# Altium footprint library CONN HEADER 2.50MM PITCH.PcbLib: 52 footprints (part 2 of 4)
Each footprint in its own frame and in the unit in brackets; x right, y up, seen from the top. Pads: shape width x height; smd on the part's side, far side on the other; paste and mask are expansions set on the pad; w line width, h text height; cw(c..) or ccw(c..) is an arc to the next point about the centre after c.
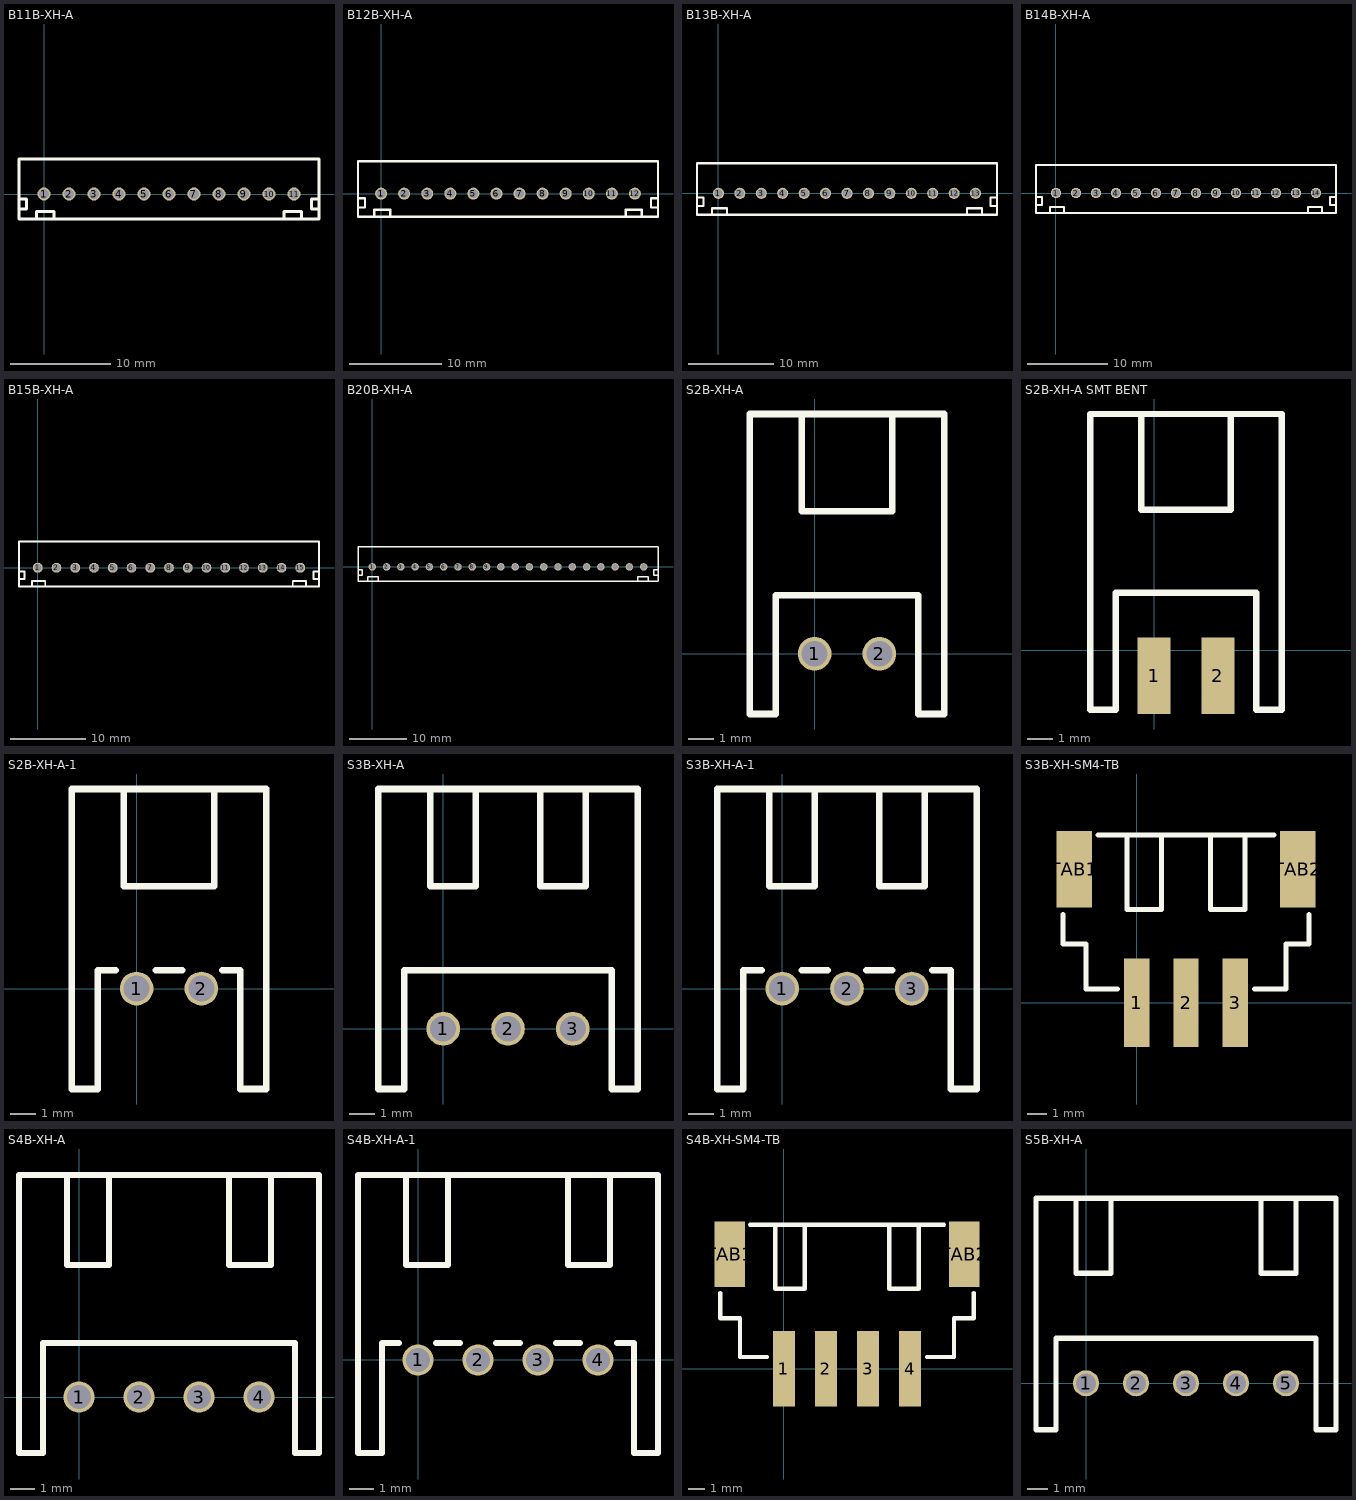
[diagram p1: the footprints below, top view; thin cyan lines are the x and y axes]

## B11B-XH-A [mm] "B11B-XH-A"
height 7
pads (11):
  round 1.3 hole 1: 1(0,0) 2(2.5,0) 3(5,0) 4(7.5,0) 5(10,0) 6(12.5,0) 7(15,0) 8(17.5,0) 9(20,0) 10(22.5,0) 11(25,0)
Top Overlay:
  lines w0.254: -2.5,-1.5 -1.75,-1.5 -1.75,-0.5 -2.5,-0.5 ; -0.75,-2.5 -0.75,-1.75 1,-1.75 1,-2.5 ; 24,-2.5 24,-1.75 25.75,-1.75 25.75,-2.5 ; 27.5,-1.5 26.75,-1.5 26.75,-0.5 27.5,-0.5 ; -2.5,-2.5 27.5,-2.5 27.5,3.5 -2.5,3.5 -2.5,-2.5
3D body "B11B-XH-A.STEP": height 7, standoff -3.4, extent -2.45,-2.375 27.45,3.375

## B12B-XH-A [mm] "B12B-XH-A"
pads (12):
  round 1.3 hole 1: 1(0,0) 2(2.5,0) 3(5,0) 4(7.5,0) 5(10,0) 6(12.5,0) 7(15,0) 8(17.5,0) 9(20,0) 10(22.5,0) 11(25,0) 12(27.5,0)
Top Overlay:
  lines w0.254: -2.5,-1.5 -1.75,-1.5 -1.75,-0.5 -2.5,-0.5 ; -0.75,-2.5 -0.75,-1.75 1,-1.75 1,-2.5 ; 26.5,-2.5 26.5,-1.75 28.25,-1.75 28.25,-2.5 ; 30,-1.5 29.25,-1.5 29.25,-0.5 30,-0.5 ; -2.5,-2.5 30,-2.5 30,3.5 -2.5,3.5 -2.5,-2.5
3D body "B12B-XH-A.STEP": height 7, standoff -3.4, extent -2.45,-2.375 29.95,3.375

## B13B-XH-A [mm] "B13B-XH-A"
height 7
pads (13):
  round 1.3 hole 1: 1(0,0) 2(2.5,0) 3(5,0) 4(7.5,0) 5(10,0) 6(12.5,0) 7(15,0) 8(17.5,0) 9(20,0) 10(22.5,0) 11(25,0) 12(27.5,0) 13(30,0)
Top Overlay:
  lines w0.254: -2.5,-1.5 -1.75,-1.5 -1.75,-0.5 -2.5,-0.5 ; -0.75,-2.5 -0.75,-1.75 1,-1.75 1,-2.5 ; 29,-2.5 29,-1.75 30.75,-1.75 30.75,-2.5 ; 32.5,-1.5 31.75,-1.5 31.75,-0.5 32.5,-0.5 ; -2.5,-2.5 32.5,-2.5 32.5,3.5 -2.5,3.5 -2.5,-2.5
3D body "B13B-XH-A.STEP": height 7, standoff -3.4, extent -2.45,-2.375 32.45,3.375

## B14B-XH-A [mm] "B14B-XH-A"
height 7
pads (14):
  round 1.3 hole 1: 1(0,0) 2(2.5,0) 3(5,0) 4(7.5,0) 5(10,0) 6(12.5,0) 7(15,0) 8(17.5,0) 9(20,0) 10(22.5,0) 11(25,0) 12(27.5,0) 13(30,0) 14(32.5,0)
Top Overlay:
  lines w0.254: -2.5,-1.5 -1.75,-1.5 -1.75,-0.5 -2.5,-0.5 ; -0.75,-2.5 -0.75,-1.75 1,-1.75 1,-2.5 ; 31.5,-2.5 31.5,-1.75 33.25,-1.75 33.25,-2.5 ; 35,-1.5 34.25,-1.5 34.25,-0.5 35,-0.5 ; -2.5,-2.5 -2.5,3.5 35,3.5 35,-2.5 -2.5,-2.5
3D body "B14B-XH-A.STEP": height 7, standoff -3.4, extent -2.45,-2.375 34.95,3.375

## B15B-XH-A [mm] "B15B-XH-A"
height 7
pads (15):
  round 1.3 hole 1: 1(0,0) 2(2.5,0) 3(5,0) 4(7.5,0) 5(10,0) 6(12.5,0) 7(15,0) 8(17.5,0) 9(20,0) 10(22.5,0) 11(25,0) 12(27.5,0) 13(30,0) 14(32.5,0) 15(35,0)
Top Overlay:
  lines w0.254: -2.5,-1.5 -1.75,-1.5 -1.75,-0.5 -2.5,-0.5 ; -0.75,-2.5 -0.75,-1.75 1,-1.75 1,-2.5 ; 34,-2.5 34,-1.75 35.75,-1.75 35.75,-2.5 ; 37.5,-1.5 36.75,-1.5 36.75,-0.5 37.5,-0.5 ; -2.5,-2.5 37.5,-2.5 37.5,3.5 -2.5,3.5 -2.5,-2.5
3D body "B15B-XH-A.STEP": height 7, standoff -3.4, extent -2.45,-2.375 37.45,3.375

## B20B-XH-A [mm] "B20B-XH-A"
height 7
pads (20):
  round 1.3 hole 1: 1(0,0) 2(2.5,0) 3(5,0) 4(7.5,0) 5(10,0) 6(12.5,0) 7(15,0) 8(17.5,0) 9(20,0) 10(22.5,0) 11(25,0) 12(27.5,0) 13(30,0) 14(32.5,0) 15(35,0) 16(37.5,0) 17(40,0) 18(42.5,0) 19(45,0) 20(47.5,0)
Top Overlay:
  lines w0.254: -2.5,-1.5 -1.75,-1.5 -1.75,-0.5 -2.5,-0.5 ; -0.75,-2.5 -0.75,-1.75 1,-1.75 1,-2.5 ; 46.5,-2.5 46.5,-1.75 48.25,-1.75 48.25,-2.5 ; 50,-1.5 49.25,-1.5 49.25,-0.5 50,-0.5 ; -2.5,-2.5 -2.5,3.5 50,3.5 50,-2.5 -2.5,-2.5
3D body "B20B-XH-A.STEP": height 7, standoff -3.4, extent -2.45,-2.375 49.95,3.375

## S2B-XH-A [mm] "S2B-XH-A"
height 6.1
pads (2):
  round 1.3 hole 1: 1(0,0) 2(2.5,0)
Top Overlay:
  lines w0.254: -2.5,-2.325 -1.5,-2.325 -1.5,2.25 4,2.25 4,-2.325 5,-2.325 5,9.25 -2.5,9.25 -2.5,-2.25 ; -0.5,9.25 -0.5,5.5 1.25,5.5 3,5.5 3,9.25
3D body "S2B-XH-A.STEP": height 5.95, standoff -3.4, extent -2.45,-2.25 4.95,9.25

## S2B-XH-A SMT BENT [mm] "S2B-XH-A with bent  leads for SMT mount"
height 6.1
pads (2):
  rect 1.3x3 smd: 1(0,-1) 2(2.5,-1)
Top Overlay:
  lines w0.254: -2.5,-2.325 -1.5,-2.325 -1.5,2.25 4,2.25 4,-2.325 5,-2.325 5,9.25 -2.5,9.25 -2.5,-2.25 ; -0.5,9.25 -0.5,5.5 1.25,5.5 3,5.5 3,9.25

## S2B-XH-A-1 [mm] "S2B-XH-A-1"
height 6.1
pads (2):
  round 1.3 hole 1: 1(0,0) 2(2.5,0)
Top Overlay:
  lines w0.254: -2.5,-3.875 -1.5,-3.875 -1.5,0.7 -0.8,0.7 ; -2.5,-3.8 -2.5,7.7 5,7.7 5,-3.875 4,-3.875 4,0.7 3.3,0.7 ; -0.5,7.7 -0.5,3.95 1.25,3.95 3,3.95 3,7.7 ; 0.75,0.7 1.2,0.7 1.75,0.7
3D body "S2B-XH-A-1.STEP": height 5.95, standoff -3.4, extent -2.4,-3.925 5,7.575

## S3B-XH-A [mm] "S3B-XH-A"
height 6.1
pads (3):
  round 1.3 hole 1: 1(0,0) 2(2.5,0) 3(5,0)
Top Overlay:
  lines w0.254: -2.5,-2.325 -1.5,-2.325 -1.5,2.25 6.5,2.25 6.5,-2.325 7.5,-2.325 7.5,9.25 -2.5,9.25 -2.5,-2.25 ; -0.5,9.25 -0.5,5.5 1.25,5.5 1.25,9.25 ; 3.75,9.25 3.75,5.5 5.5,5.5 5.5,9.25
3D body "S3B-XH-A.STEP": height 6.15, standoff -3.4, extent -2.45,-2.25 7.45,9.25

## S3B-XH-A-1 [mm] "S3B-XH-A-1"
height 6.1
pads (3):
  round 1.3 hole 1: 1(0,0) 2(2.5,0) 3(5,0)
Top Overlay:
  lines w0.254: -2.5,-3.875 -1.5,-3.875 -1.5,0.7 -0.8,0.7 ; -2.5,-3.8 -2.5,7.7 7.5,7.7 7.5,-3.875 6.5,-3.875 6.5,0.7 5.8,0.7 ; -0.5,7.7 -0.5,3.95 1.25,3.95 1.25,7.7 ; 0.75,0.7 1.75,0.7 ; 3.25,0.7 4.25,0.7 ; 3.75,7.7 3.75,3.95 5.5,3.95 5.5,7.7
3D body "S3B-XH-A-1.STEP": height 6.1, standoff -3.45, extent -2.45,-3.9 7.45,7.6

## S3B-XH-SM4-TB [mm] "S3B-XH-SM4-TB"
height 6.1
pads (5):
  rect 1.3x4.5 smd: 1(0,0) 2(2.5,0) 3(5,0)
  rect 1.8x3.9 smd: TAB1(-3.2,6.8) TAB2(8.2,6.8)
Top Overlay:
  lines w0.254: -3.775,4.5 -3.775,3 -2.6,3 -2.6,0.7 -1,0.7 ; -2,8.55 7,8.55 ; -0.5,8.5 -0.5,4.75 1.25,4.75 1.25,8.5 ; 3.75,8.5 3.75,4.75 5.5,4.75 5.5,8.5 ; 6,0.7 7.6,0.7 7.6,3 8.775,3 8.775,4.5
3D body "S3B-XH-SM4-TB.STEP": height 6, standoff 0, extent -3.725,-1.45 8.725,8.55

## S4B-XH-A [mm] "S4B-XH-A"
height 6.1
pads (4):
  round 1.3 hole 1: 1(0,0) 2(2.5,0) 3(5,0) 4(7.5,0)
Top Overlay:
  lines w0.254: -2.5,-2.325 -1.5,-2.325 -1.5,2.25 9,2.25 9,-2.325 10,-2.325 10,9.25 -2.5,9.25 -2.5,-2.25 ; -0.5,9.25 -0.5,5.5 1.25,5.5 1.25,9.25 ; 6.25,9.25 6.25,5.5 8,5.5 8,9.25
3D body "S4B-XH-A.STEP": height 6.15, standoff -3.4, extent -2.45,-2.25 9.95,9.25

## S4B-XH-A-1 [mm] "S4B-XH-A-1"
height 6.1
pads (4):
  round 1.3 hole 1: 1(0,0) 2(2.5,0) 3(5,0) 4(7.5,0)
Top Overlay:
  lines w0.254: -2.5,-3.875 -1.5,-3.875 -1.5,0.7 -0.8,0.7 ; -2.5,-3.8 -2.5,7.7 10,7.7 10,-3.875 9,-3.875 9,0.7 8.3,0.7 ; -0.5,7.7 -0.5,3.95 1.25,3.95 1.25,7.7 ; 0.75,0.7 1.75,0.7 ; 3.25,0.7 4.25,0.7 ; 5.75,0.7 6.75,0.7 ; 6.25,7.7 6.25,3.95 8,3.95 8,7.7
3D body "S4B-XH-A-1.STEP": height 6.15, standoff -3.4, extent -2.45,-3.875 9.95,7.625

## S4B-XH-SM4-TB [mm] "S4B-XH-SM4-TB"
height 6.1
pads (6):
  rect 1.3x4.5 smd: 1(0,0) 2(2.5,0) 3(5,0) 4(7.5,0)
  rect 1.8x3.9 smd: TAB1(-3.2,6.8) TAB2(10.7,6.8)
Top Overlay:
  lines w0.254: -3.775,4.5 -3.775,3 -2.6,3 -2.6,0.7 -1,0.7 ; -2,8.55 9.5,8.55 ; -0.5,8.5 -0.5,4.75 1.25,4.75 1.25,8.5 ; 6.25,8.5 6.25,4.75 8,4.75 8,8.5 ; 8.5,0.7 10.1,0.7 10.1,3 11.275,3 11.275,4.5
3D body "S4B-XH-SM4-TB.STEP": height 6, standoff 0, extent -3.725,-1.45 11.225,8.55

## S5B-XH-A [mm] "S5B-XH-A"
height 6.1
pads (5):
  round 1.3 hole 1: 1(0,0) 2(2.5,0) 3(5,0) 4(7.5,0) 5(10,0)
Top Overlay:
  lines w0.254: -2.5,-2.325 -1.5,-2.325 -1.5,2.25 11.5,2.25 11.5,-2.325 12.5,-2.325 12.5,9.25 -2.5,9.25 -2.5,-2.25 ; -0.5,9.25 -0.5,5.5 1.25,5.5 1.25,9.25 ; 8.75,9.25 8.75,5.5 10.5,5.5 10.5,9.25
3D body "S5B-XH-A.STEP": height 6.15, standoff -3.4, extent -2.45,-2.25 12.45,9.25